# Altium footprint library VLDR1235G.PcbLib: 1 footprints
Each footprint in its own frame and in the unit in brackets; x right, y up, seen from the top. Pads: shape width x height; smd on the part's side, far side on the other; paste and mask are expansions set on the pad; w line width, h text height; cw(c..) or ccw(c..) is an arc to the next point about the centre after c.
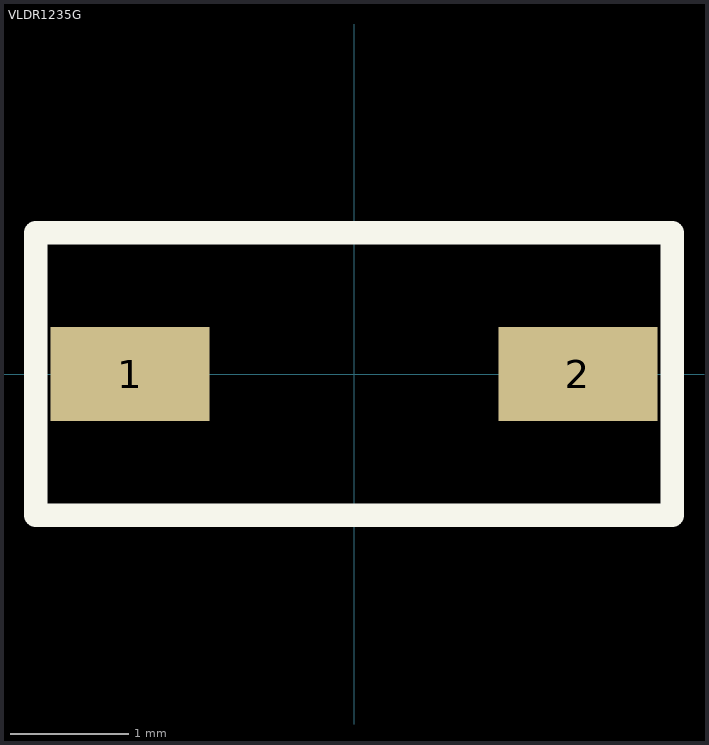
[diagram p0: the footprint, top view; thin cyan lines are the x and y axes]

## VLDR1235G [mm]
height 0.9
pads (2):
  rect 1.35x0.8 smd: 1(-1.9,0) 2(1.9,0)
Top Overlay:
  lines w0.2: -2.7,-1.2 2.7,-1.2 2.7,1.2 -2.7,1.2 -2.7,-1.2
Top Assembly:
  lines w0.1: -2.7,-1.2 2.7,-1.2 2.7,1.2 -2.7,1.2 -2.7,-1.2
  text "'.Designator'" at -0.95,0.075 h0.7
3D body "User Library-Vishay-VSMB2943GX01.STEP": height 2.6, standoff 0, extent -2.1,-1.15 2.1,1.15